# Altium footprint library DRV2605LDGST.PcbLib: 3 footprints
Each footprint in its own frame and in the unit in brackets; x right, y up, seen from the top. Pads: shape width x height; smd on the part's side, far side on the other; paste and mask are expansions set on the pad; w line width, h text height; cw(c..) or ccw(c..) is an arc to the next point about the centre after c.
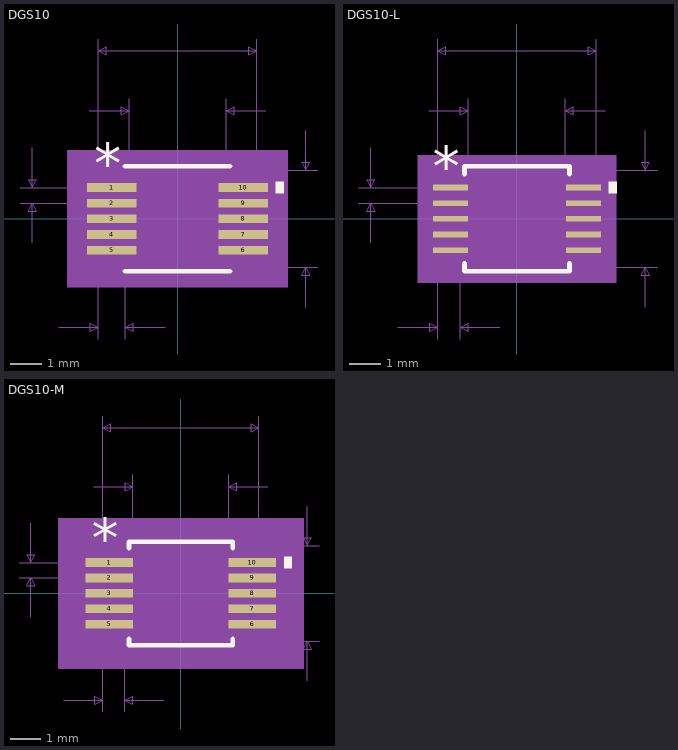
[diagram p0: the footprints below, top view; thin cyan lines are the x and y axes]

## DGS10 [mil]
pads (10):
  rect 62x11 smd: 1(-82.5,39.37) 2(-82.5,19.68) 3(-82.5,0) 4(-82.5,-19.68) 5(-82.5,-39.37) 6(82.5,-39.37) 7(82.5,-19.68) 8(82.5,0) 9(82.5,19.68) 10(82.5,39.37)
Top Overlay:
  region: 123.5,46.87 133.5,46.87 133.5,31.87 123.5,31.87
  lines w6: -66,-66 66,-66 ; -66,66 66,66
  text "*" at -105,45.37 h50
Mechanical 5:
  region: 138.5,-86 -138.5,-86 -138.5,86 138.5,86
Mechanical 7:
  lines w1: -197.5,19.68 -82.5,19.68 ; -197.5,39.37 -82.5,39.37 ; -182.5,-30.32 -182.5,19.68 ; -182.5,89.37 -182.5,39.37 ; -149.5,-136 -99.5,-136 ; -111,136 -61,136 ; -99.5,-151 -99.5,0 -99.5,226 ; -65.5,-151 -65.5,0 ; -61,0 -61,151 ; -15.5,-136 -65.5,-136 ; 0,-61 176,-61 ; 0,61 176,61 ; 61,0 61,151 ; 99.5,0 99.5,226 ; 111,136 61,136 ; 161,-111 161,-61 ; 161,111 161,61 ; -182.5,19.68 -177.5,9.69 -187.5,9.69 -182.5,19.68 ; -182.5,39.37 -177.5,49.37 -187.5,49.37 -182.5,39.37 ; -99.5,-136 -109.5,-141 -109.5,-131 -99.5,-136 ; -99.5,211 -89.5,206 -89.5,216 -99.5,211 ; -99.5,211 99.5,211 ; -65.5,-136 -55.5,-141 -55.5,-131 -65.5,-136 ; -61,136 -71,131 -71,141 -61,136 ; 61,136 71,131 71,141 61,136 ; 99.5,211 89.5,206 89.5,216 99.5,211 ; 161,-61 166,-71 156,-71 161,-61 ; 161,61 166,71 156,71 161,61
  text "0.028in/0.711mm" at -176.25,-181 h25
  text "0.02in/0.5mm" at -352.5,17.03 h25
  text "0.122in/3.099mm" at 181,-12.5 h25
  text "0.199in/5.055mm" at -93.75,231 h25
  text "0.122in/3.099mm" at -93.75,156 h25
  text "Alt 2 Padstyle: OX90Y60D30P" at -337.5,-561 h50
  text "Alt 1 Padstyle: OX60Y90D30P" at -337.5,-501 h50
  text "Pin One Padstyle: RX62Y11D0T" at -350,-321 h50
  text "Default Padstyle: RX62Y11D0T" at -350,-261 h50
Mechanical 13:
  lines w0: -12,61 ccw(c0,61) 12,61
  lines w1: -99.5,-44.87 -61,-44.87 -61,-33.87 -99.5,-33.87 -99.5,-44.87 ; -99.5,-25.18 -61,-25.18 -61,-14.19 -99.5,-14.19 -99.5,-25.18 ; -99.5,-5.5 -61,-5.5 -61,5.5 -99.5,5.5 -99.5,-5.5 ; -99.5,14.19 -61,14.19 -61,25.18 -99.5,25.18 -99.5,14.19 ; -99.5,33.87 -61,33.87 -61,44.87 -99.5,44.87 -99.5,33.87 ; -61,-61 -61,61 61,61 61,-61 -61,-61 ; 61,-44.87 99.5,-44.87 99.5,-33.87 61,-33.87 61,-44.87 ; 61,-25.18 99.5,-25.18 99.5,-14.19 61,-14.19 61,-25.18 ; 61,-5.5 99.5,-5.5 99.5,5.5 61,5.5 61,-5.5 ; 61,14.19 99.5,14.19 99.5,25.18 61,25.18 61,14.19 ; 61,33.87 99.5,33.87 99.5,44.87 61,44.87 61,33.87
  text "*" at -58.5,8 h50
Mechanical 15:
  region: -71,-54.87 -123.5,-54.87 -123.5,54.87 -71,54.87 -71,71 71,71 71,54.87 123.5,54.87 123.5,-54.87 71,-54.87 71,-71 -71,-71
  lines w6: -123.5,-54.87 -71,-54.87 -71,-71 71,-71 71,-54.87 123.5,-54.87 123.5,54.87 71,54.87 71,71 -71,71 -71,54.87 -123.5,54.87 -123.5,-54.87
3D body "DGS10.step": height 43.11, standoff 0, extent -99.48,-60.98 99.5,60.99
3D body: height 10, standoff 0, extent 0,0 10,10

## DGS10-L [mil]
pads (10):
  rect 44x7 smd paste+0 mask+0: 1(-83.5,39.37) 2(-83.5,19.68) 3(-83.5,0) 4(-83.5,-19.68) 5(-83.5,-39.37) 6(83.5,-39.37) 7(83.5,-19.68) 8(83.5,0) 9(83.5,19.68) 10(83.5,39.37)
Top Overlay:
  region: 115.5,46.87 125.5,46.87 125.5,31.87 115.5,31.87
  lines w6: -66,-55.97 -66,-66 66,-66 66,-55.97 ; -66,55.97 -66,66 66,66 66,55.97
  text "*" at -106,41.37 h50
Mechanical 5:
  region: 124.5,-80 -124.5,-80 -124.5,80 124.5,80
Mechanical 7:
  lines w1: -198.5,19.68 -83.5,19.68 ; -198.5,39.37 -83.5,39.37 ; -183.5,-30.32 -183.5,19.68 ; -183.5,89.37 -183.5,39.37 ; -149.5,-136 -99.5,-136 ; -111,136 -61,136 ; -99.5,-151 -99.5,0 -99.5,226 ; -71.5,-151 -71.5,0 ; -61,0 -61,151 ; -21.5,-136 -71.5,-136 ; 0,-61 176,-61 ; 0,61 176,61 ; 61,0 61,151 ; 99.5,0 99.5,226 ; 111,136 61,136 ; 161,-111 161,-61 ; 161,111 161,61 ; -183.5,19.68 -178.5,9.69 -188.5,9.69 -183.5,19.68 ; -183.5,39.37 -178.5,49.37 -188.5,49.37 -183.5,39.37 ; -99.5,-136 -109.5,-141 -109.5,-131 -99.5,-136 ; -99.5,211 -89.5,206 -89.5,216 -99.5,211 ; -99.5,211 99.5,211 ; -71.5,-136 -61.5,-141 -61.5,-131 -71.5,-136 ; -61,136 -71,131 -71,141 -61,136 ; 61,136 71,131 71,141 61,136 ; 99.5,211 89.5,206 89.5,216 99.5,211 ; 161,-61 166,-71 156,-71 161,-61 ; 161,61 166,71 156,71 161,61
  text "0.028in/0.711mm" at -179.25,-181 h25
  text "0.02in/0.5mm" at -353.5,17.03 h25
  text "0.122in/3.099mm" at 181,-12.5 h25
  text "0.199in/5.055mm" at -93.75,231 h25
  text "0.122in/3.099mm" at -93.75,156 h25
  text "Alt 2 Padstyle: OX90Y60D30P" at -337.5,-561 h50
  text "Alt 1 Padstyle: OX60Y90D30P" at -337.5,-501 h50
  text "Pin One Padstyle: RX44Y7D0T" at -337.5,-321 h50
  text "Default Padstyle: RX44Y7D0T" at -337.5,-261 h50
Mechanical 13:
  lines w0: -12,61 ccw(c0,61) 12,61
  lines w1: -99.5,-44.87 -61,-44.87 -61,-33.87 -99.5,-33.87 -99.5,-44.87 ; -99.5,-25.18 -61,-25.18 -61,-14.19 -99.5,-14.19 -99.5,-25.18 ; -99.5,-5.5 -61,-5.5 -61,5.5 -99.5,5.5 -99.5,-5.5 ; -99.5,14.19 -61,14.19 -61,25.18 -99.5,25.18 -99.5,14.19 ; -99.5,33.87 -61,33.87 -61,44.87 -99.5,44.87 -99.5,33.87 ; -61,-61 -61,61 61,61 61,-61 -61,-61 ; 61,-44.87 99.5,-44.87 99.5,-33.87 61,-33.87 61,-44.87 ; 61,-25.18 99.5,-25.18 99.5,-14.19 61,-14.19 61,-25.18 ; 61,-5.5 99.5,-5.5 99.5,5.5 61,5.5 61,-5.5 ; 61,14.19 99.5,14.19 99.5,25.18 61,25.18 61,14.19 ; 61,33.87 99.5,33.87 99.5,44.87 61,44.87 61,33.87
  text "*" at -58.5,8 h50
Mechanical 15:
  region: -65,-46.87 -109.5,-46.87 -109.5,46.87 -65,46.87 -65,65 65,65 65,46.87 109.5,46.87 109.5,-46.87 65,-46.87 65,-65 -65,-65
  lines w6: -109.5,-46.87 -65,-46.87 -65,-65 65,-65 65,-46.87 109.5,-46.87 109.5,46.87 65,46.87 65,65 -65,65 -65,46.87 -109.5,46.87 -109.5,-46.87
3D body "DGS10-L.step": height 43.11, standoff 0, extent -99.48,-60.98 99.49,60.99
3D body: height 10, standoff 0, extent 0,0 10,10

## DGS10-M [mil]
pads (10):
  rect 60.5x11 smd paste+0 mask+0: 1(-91.25,39.37) 2(-91.25,19.68) 3(-91.25,0) 4(-91.25,-19.68) 5(-91.25,-39.37) 6(91.25,-39.37) 7(91.25,-19.68) 8(91.25,0) 9(91.25,19.68) 10(91.25,39.37)
Top Overlay:
  region: 131.5,46.87 141.5,46.87 141.5,31.87 131.5,31.87
  lines w6: -66,-57.97 -66,-66 66,-66 66,-57.97 ; -66,57.97 -66,66 66,66 66,57.97
  text "*" at -113.75,45.37 h50
Mechanical 5:
  region: 156.5,-96 -156.5,-96 -156.5,96 156.5,96
Mechanical 7:
  lines w1: -206.25,19.68 -91.25,19.68 ; -206.25,39.37 -91.25,39.37 ; -191.25,-30.32 -191.25,19.68 ; -191.25,89.37 -191.25,39.37 ; -149.5,-136 -99.5,-136 ; -111,136 -61,136 ; -99.5,-151 -99.5,0 -99.5,226 ; -71.5,-151 -71.5,0 ; -61,0 -61,151 ; -21.5,-136 -71.5,-136 ; 0,-61 176,-61 ; 0,61 176,61 ; 61,0 61,151 ; 99.5,0 99.5,226 ; 111,136 61,136 ; 161,-111 161,-61 ; 161,111 161,61 ; -191.25,19.68 -186.25,9.69 -196.25,9.69 -191.25,19.68 ; -191.25,39.37 -186.25,49.37 -196.25,49.37 -191.25,39.37 ; -99.5,-136 -109.5,-141 -109.5,-131 -99.5,-136 ; -99.5,211 -89.5,206 -89.5,216 -99.5,211 ; -99.5,211 99.5,211 ; -71.5,-136 -61.5,-141 -61.5,-131 -71.5,-136 ; -61,136 -71,131 -71,141 -61,136 ; 61,136 71,131 71,141 61,136 ; 99.5,211 89.5,206 89.5,216 99.5,211 ; 161,-61 166,-71 156,-71 161,-61 ; 161,61 166,71 156,71 161,61
  text "0.028in/0.711mm" at -179.25,-181 h25
  text "0.02in/0.5mm" at -361.25,17.03 h25
  text "0.122in/3.099mm" at 181,-12.5 h25
  text "0.199in/5.055mm" at -93.75,231 h25
  text "0.122in/3.099mm" at -93.75,156 h25
  text "Alt 2 Padstyle: OX90Y60D30P" at -337.5,-561 h50
  text "Alt 1 Padstyle: OX60Y90D30P" at -337.5,-501 h50
  text "Pin One Padstyle: RX60p5Y11D0T" at -375,-321 h50
  text "Default Padstyle: RX60p5Y11D0T" at -375,-261 h50
Mechanical 13:
  lines w0: -12,61 ccw(c0,61) 12,61
  lines w1: -99.5,-44.87 -61,-44.87 -61,-33.87 -99.5,-33.87 -99.5,-44.87 ; -99.5,-25.18 -61,-25.18 -61,-14.19 -99.5,-14.19 -99.5,-25.18 ; -99.5,-5.5 -61,-5.5 -61,5.5 -99.5,5.5 -99.5,-5.5 ; -99.5,14.19 -61,14.19 -61,25.18 -99.5,25.18 -99.5,14.19 ; -99.5,33.87 -61,33.87 -61,44.87 -99.5,44.87 -99.5,33.87 ; -61,-61 -61,61 61,61 61,-61 -61,-61 ; 61,-44.87 99.5,-44.87 99.5,-33.87 61,-33.87 61,-44.87 ; 61,-25.18 99.5,-25.18 99.5,-14.19 61,-14.19 61,-25.18 ; 61,-5.5 99.5,-5.5 99.5,5.5 61,5.5 61,-5.5 ; 61,14.19 99.5,14.19 99.5,25.18 61,25.18 61,14.19 ; 61,33.87 99.5,33.87 99.5,44.87 61,44.87 61,33.87
  text "*" at -58.5,8 h50
Mechanical 15:
  region: -81,-64.87 -141.5,-64.87 -141.5,64.87 -81,64.87 -81,81 81,81 81,64.87 141.5,64.87 141.5,-64.87 81,-64.87 81,-81 -81,-81
  lines w6: -141.5,-64.87 -81,-64.87 -81,-81 81,-81 81,-64.87 141.5,-64.87 141.5,64.87 81,64.87 81,81 -81,81 -81,64.87 -141.5,64.87 -141.5,-64.87
3D body "DGS10-M.step": height 43.11, standoff 0, extent -99.48,-60.98 99.49,60.99
3D body: height 10, standoff 0, extent 0,0 10,10